# EAGLE library part SWITCH-DPDT (library SparkFun-Retired)
DPDT Version of the COM-00597
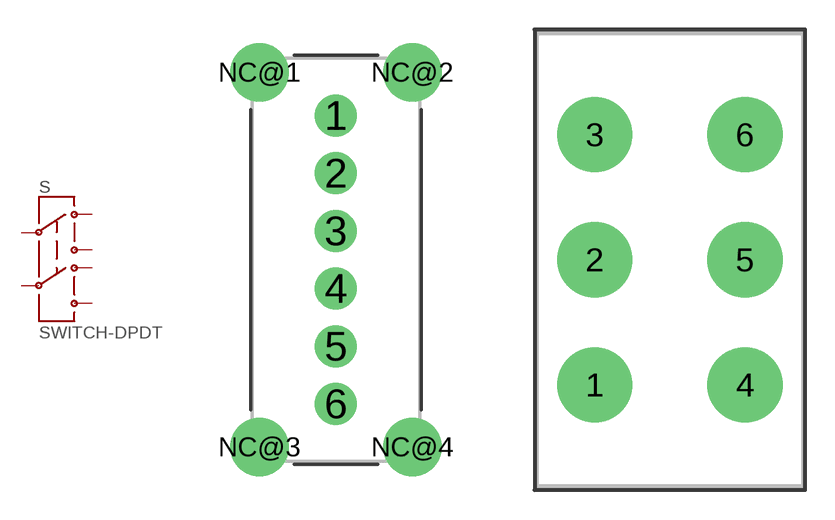
[diagram p86: symbol with the pads of MSS22; footprints MSS22, MS]

Designator prefix S

## SWITCH-DPDTPTH (PROD_ID: SWCH-09244)  [MSS22]
1  1
2  2
3  3
4  4
5  5
6  6

## SWITCH-DPDTPTH1 (SF_SKU: COM-11139)  [MS]
Pads as for MSS22

## SWITCH-DPDTES  [ES]
Pads as for MSS22

## SWITCH-DPDTOS  [OS]
Pads as for MSS22

## SWITCH-DPDTEG2211  [EG2211]
P1  2
P1-TA  1
P1-TB  3
P2  5
P2-TA  4
P2-TB  6

## SWITCH-DPDTSTOMP-PTH (PROD_ID: SWCH-12340; SF_SKU: COM-11151)  [STOMP-SWITCH-DPDT]
P$1  1
P$2  2
P$3  3
P$4  4
P$5  5
P$6  6

## Footprint MSS22 (pad centres in mm)
MSS22 DPDT Switch
drill 0.95: 1 2.65,11.5; 2 2.65,9.5; 3 2.65,7.5; 4 2.65,5.5; 5 2.65,3.5; 6 2.65,1.5
drill 1.35: NC@1 0,13; NC@2 5.3,13; NC@3 0,0; NC@4 5.3,0

## Footprint MS (pad centres in mm)
Series S Slide Switch
drill 2.8 pad 3.302: 1 -3.81,-6.35; 2 -3.81,0; 3 -3.81,6.35; 4 3.81,-6.35; 5 3.81,0; 6 3.81,6.35

## Footprint ES (pad centres in mm)
Right Angle Slide Switch. Works with part#ES21MABE
drill 0.864 pad 1.27: 1 2.54,2.54; 2 0,2.54; 3 -2.54,2.54; 4 2.54,0; 5 0,0; 6 -2.54,0
drill 0.9 pad 1.676: NC@1 -2.54,7.62; NC@2 2.54,7.62

## Footprint OS (pad centres in mm)
drill 0.787 pad 1.27: 1 -2.007,1.245; 2 0,1.245; 3 2.007,1.245; 4 -2.007,-1.245; 5 0,-1.245; 6 2.007,-1.245

## Footprint EG2211 (pad centres in mm)
drill 0.8: P1 -1,0; P1-TA -1,2; P1-TB -1,-2; P2 1,0; P2-TA 1,2; P2-TB 1,-2
drill 1.2: P$7 0,4.6; P$8 0,-4.6

## Footprint STOMP-SWITCH-DPDT (pad centres in mm)
Stomp switch COM-11151 Footprint unproven
drill 1.5: P$1 -7.1,4.375; P$2 0,4.375; P$3 7.1,4.375; P$4 -7.1,-4.375; P$5 0,-4.375; P$6 7.1,-4.375